# EAGLE library part PCMC2-06 (library metaltex)
METALTEX - CONECTOR PLACA-CABO (2,54MM) Site do Produto <http://www.metaltex.com.br/produto/pc2/pc2-conector-placa-cabo-254mm>
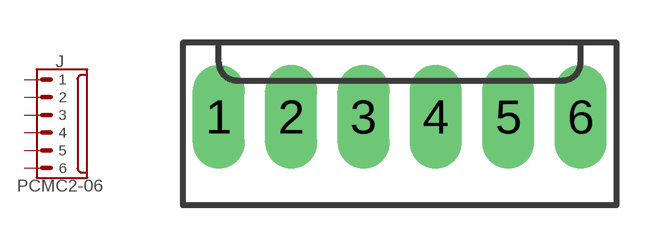
[diagram p0: symbol with the pads of PCMC2-06; footprint PCMC2-06]

Designator prefix J

## PCMC2-06  [PCMC2-06]
1  1  pas
2  2  pas
3  3  pas
4  4  pas
5  5  pas
6  6  pas

## Footprint PCMC2-06 (pad centres in mm)
drill 1.219 pad 1.524 long: 1 -6.35,0; 2 -3.81,0; 3 -1.27,0; 4 1.27,0; 5 3.81,0; 6 6.35,0